# EAGLE library part MC33152DR2G (library mosfet_drivers)
Low-Side Gate Driver IC Non-Inverting 8-SOIC Datasheet <https://www.onsemi.com/pdf/datasheet/mc34152-d.pdf>
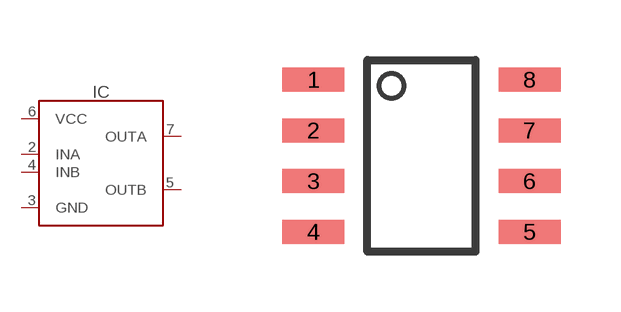
[diagram p7: symbol with the pads of SOIC8; footprint SOIC8]

Designator prefix IC

## MC33152DR2G (DIGIKEY#: MC33152DR2GOSCT-ND; MANF: ON Semiconductor; MANF#: MC33152DR2G)  [SOIC8]
2  INA
3  GND
4  INB
5  OUTB
6  VCC
7  OUTA

## Footprint SOIC8 (pad centres in mm)
https://www.ti.com/lit/ds/snvsaq5a/snvsaq5a.pdf?ts=1602424164509
smd 1.55 x 0.6: 1 -2.7,1.905; 2 -2.7,0.635; 3 -2.7,-0.635; 4 -2.7,-1.905; 5 2.7,-1.905; 6 2.7,-0.635; 7 2.7,0.635; 8 2.7,1.905